# EAGLE library part _CON_1X10_3.5MM_V_TH_(TBLH10V) (library SamacSys_Parts)
Fixed Terminal Blocks Terminal block, screwless, High Temp, 3.5, Vertical, 10, Black w Gray Button Source: Datasheet <https://www.mouser.se/datasheet/2/670/tblh10v-350-1651302.pdf>
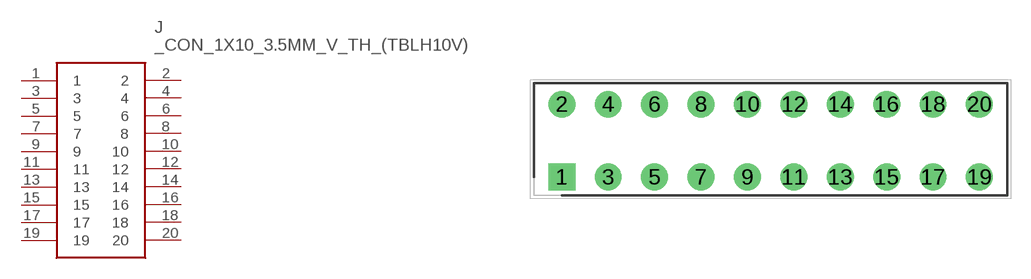
[diagram p29: symbol with the pads of RHDR20W80P550X350_2X10_3570X85; footprint RHDR20W80P550X350_2X10_3570X85]

Designator prefix J

## _CON_1X10_3.5MM_V_TH_(TBLH10V) (DESCRIPTION: Fixed Terminal Blocks Terminal block, screwless, High Temp, 3.5, Vertical, 10, Black w Gray Button; HEIGHT: 14.2mm; MANUFACTURER_NAME: CUI Devices; MANUFACTURER_PART_NUMBER: TBLH10V-350-10BK; MOUSER_PART_NUMBER: 490-TBLH10V-350-10BK; MOUSER_PRICE-STOCK: https://www.mouser.co.uk/ProductDetail/CUI-Devices/TBLH10V-350-10BK?qs=UXgszm6BlbEfNh9Q53sqow%3D%3D)  [RHDR20W80P550X350_2X10_3570X85]
1  1
2  2
3  3
4  4
5  5
6  6
7  7
8  8
9  9
10  10
11  11
12  12
13  13
14  14
15  15
16  16
17  17
18  18
19  19
20  20

## Footprint RHDR20W80P550X350_2X10_3570X85 (pad centres in mm)
TBLH10V-350-10BK
drill 1.35 pad 2.025 square: 1 0,0
drill 1.35 pad 2.025: 2 0,5.5; 3 3.5,0; 4 3.5,5.5; 5 7,0; 6 7,5.5; 7 10.5,0; 8 10.5,5.5; 9 14,0; 10 14,5.5; 11 17.5,0; 12 17.5,5.5; 13 21,0; 14 21,5.5; 15 24.5,0; 16 24.5,5.5; 17 28,0; 18 28,5.5; 19 31.5,0; 20 31.5,5.5